# Altium schematic symbol library IC.Amplifiers.SchLib: 10 symbols
Pins are listed as number, name and electrical type; pins without a type are passive.

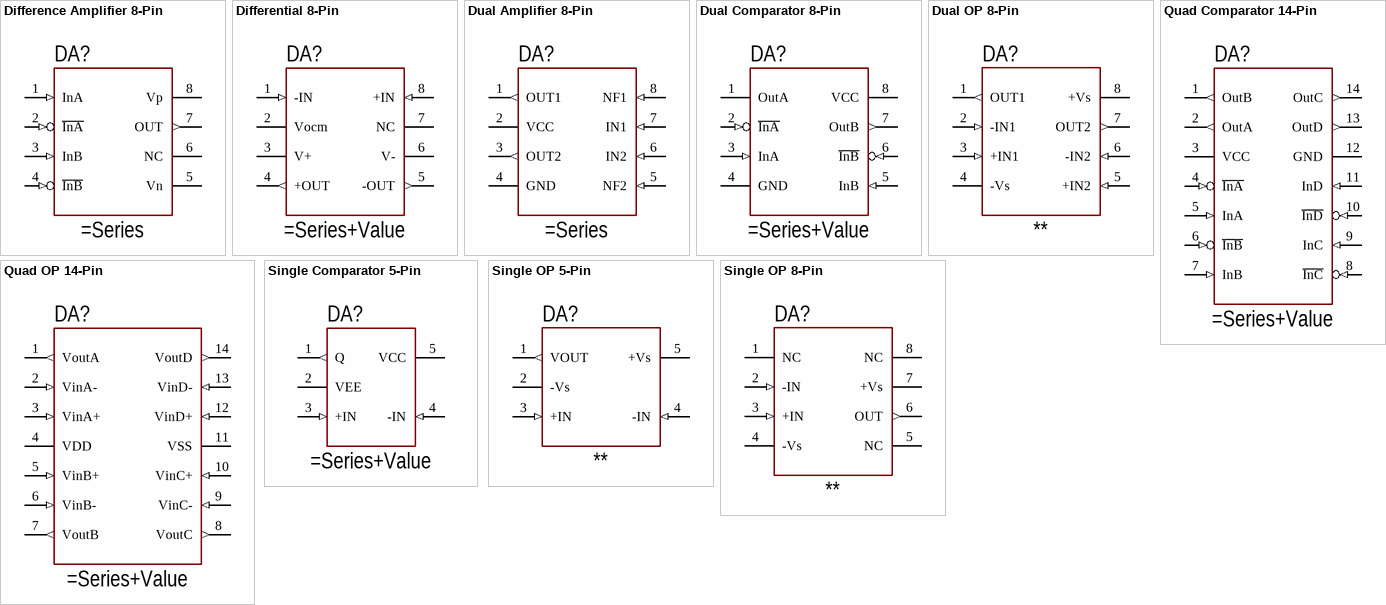
[diagram p0: symbols Difference Amplifier 8-Pin to Single OP 8-Pin]

## Difference Amplifier 8-Pin
designator DA?
Difference Amplifier Schematic Symbol
pins: 1 InA (in), 2 ~{InA} (in), 3 InB (in), 4 ~{InB} (in), 5 Vn, 6 NC, 7 OUT (out), 8 Vp

## Differential 8-Pin
designator DA?
Single Differential Amplifier, 8-Lead Package
pins: 1 -IN (in), 2 Vocm, 3 V+, 4 +OUT (out), 5 -OUT (out), 6 V-, 7 NC, 8 +IN (in)

## Dual Amplifier 8-Pin
designator DA?
Dual Amplifier with Integrated FB Loop, 8-Pin Package
pins: 1 OUT1 (out), 2 VCC, 3 OUT2 (out), 4 GND, 5 NF2 (in), 6 IN2 (in), 7 IN1 (in), 8 NF1 (in)

## Dual Comparator 8-Pin
designator DA?
Dual Comparator Schematic Symbol
pins: 1 OutA, 2 ~{InA} (in), 3 InA (in), 4 GND, 5 InB (in), 6 ~{InB} (in), 7 OutB (out), 8 VCC

## Dual OP 8-Pin
designator DA?, comment **
Dual OP Amplifier, 8-Lead Package; Part: *; Package: *
pins: 1 OUT1 (out), 2 -IN1 (in), 3 +IN1 (in), 4 -Vs, 5 +IN2 (in), 6 -IN2 (in), 7 OUT2 (out), 8 +Vs

## Quad Comparator 14-Pin
designator DA?
Quad Comparator Schematic Symbol
pins: 1 OutB (out), 2 OutA (out), 3 VCC, 4 ~{InA} (in), 5 InA (in), 6 ~{InB} (in), 7 InB (in), 8 ~{InC} (in), 9 InC (in), 10 ~{InD} (in), 11 InD (in), 12 GND, 13 OutD (out), 14 OutC (out)

## Quad OP 14-Pin
designator DA?
Quad OP Amplifier, 14-Lead Package
pins: 1 VoutA (out), 2 VinA- (in), 3 VinA+ (in), 4 VDD, 5 VinB+ (in), 6 VinB- (in), 7 VoutB (out), 8 VoutC (out), 9 VinC- (in), 10 VinC+ (in), 11 VSS, 12 VinD+ (in), 13 VinD- (in), 14 VoutD (out)

## Single Comparator 5-Pin
designator DA?
Single Analog Comparator, 5-Lead Package
pins: 1 Q (out), 2 VEE, 3 +IN (in), 4 -IN (in), 5 VCC

## Single OP 5-Pin
designator DA?, comment **
Single OP Amplifier, 5-Lead Package; Part: *; Package: *
pins: 1 VOUT (out), 2 -Vs, 3 +IN (in), 4 -IN (in), 5 +Vs

## Single OP 8-Pin
designator DA?, comment **
Single OP Amplifier, 8-Lead Package; Part: *; Package: *
pins: 1 NC, 2 -IN (in), 3 +IN (in), 4 -Vs, 5 NC, 6 OUT (out), 7 +Vs, 8 NC